# EAGLE library part DPDT (library ELCano_Footprints)
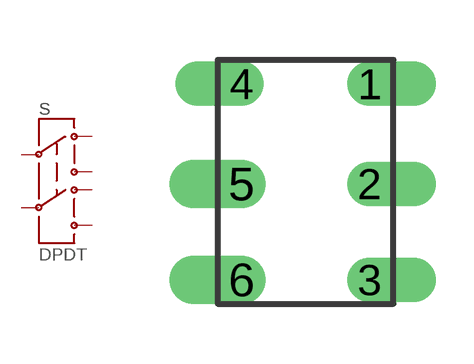
[diagram p5: symbol with the pads of DPDT; footprint DPDT]

Designator prefix S

## DPDT  [DPDT]
1  1
2  2
3  3
4  4
5  5
6  6

## Footprint DPDT (pad centres in mm)
drill 0.6 offset: 1 3.2,4.9; 2 3.2,2.4; 3 3.2,0; 4 0,4.9
drill 0.7 offset: 5 0,2.4; 6 0,0